# EAGLE library part MC33262PG (library ON Semiconductor_By_element14_Batch_1)
Power Factor Controllers
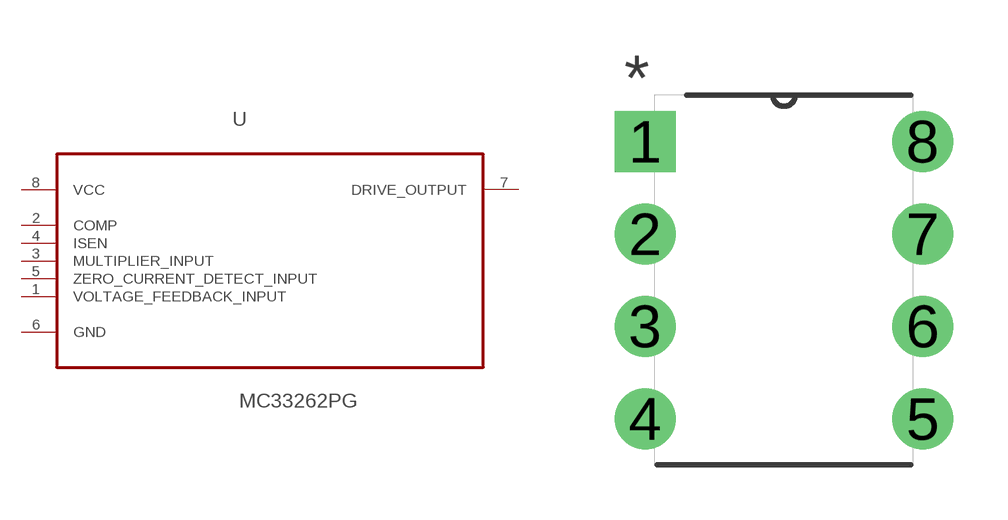
[diagram p372: symbol with the pads of DIP254P762X533-8; footprint DIP254P762X533-8]

Designator prefix U

## MC33262PG (MPN: MC33262PG; OC_FARNELL: 9666745; OC_NEWARK: 98H0691; PACKAGE: PDIP-8; SUPPLIER: ON SEMICONDUCTOR)  [DIP254P762X533-8]
1  VOLTAGE_FEEDBACK_INPUT  in
2  COMP  in
3  MULTIPLIER_INPUT  in
4  ISEN  in
5  ZERO_CURRENT_DETECT_INPUT  in
6  GND  pas
7  DRIVE_OUTPUT  out
8  VCC  pwr

## Footprint DIP254P762X533-8 (pad centres in mm)
drill 1.118 square: 1 -7.62,7.62
drill 1.118: 2 -7.62,5.08; 3 -7.62,2.54; 4 -7.62,0; 5 0,0; 6 0,2.54; 7 0,5.08; 8 0,7.62